# EAGLE library part CHRG-MCP73833 (library eagleLib v2)
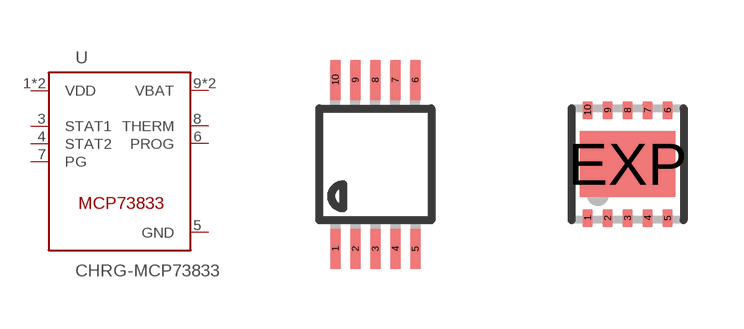
[diagram p28: symbol with the pads of MSOP10; footprints MSOP10, DFN10-3X3]

Designator prefix -

## CHRG-MCP73833-MS  [MSOP10]
1  VDD
2  VDD
3  STAT1
4  STAT2
5  GND
6  PROG
7  PG
8  THERM
9  VBAT
10  VBAT

## CHRG-MCP73833-DFN  [DFN10-3X3]
1  VDD
2  VDD
3  STAT1
4  STAT2
5  GND
6  PG
7  PROG
8  THERM
9  VBAT
10  VBAT
EXP  GND

## Footprint MSOP10 (pad centres in mm)
10-Lead Mini Small Outline Package [MSOP] (RM-10) Source: http://www.analog.com/UploadedFiles/Data_Sheets/35641221898805SSM2167_b.pdf COMPLIANT TO JEDEC STANDARDS MO-187BA
smd 0.25 x 1: 1 -1,-2.113; 2 -0.5,-2.113; 3 0,-2.113; 4 0.5,-2.113; 5 1,-2.113; 6 1,2.113; 7 0.5,2.113; 8 0,2.113; 9 -0.5,2.113; 10 -1,2.113

## Footprint DFN10-3X3 (pad centres in mm)
DD Package 10-Lead Plastic DFN (3mm × 3mm) (Reference LTC DWG # 05-08-1669) Source: http://www.linear.com .. 4062fa.pdf
smd 0.25 x 0.45: 1 -1,-1.35; 2 -0.5,-1.35; 3 0,-1.35; 4 0.5,-1.35; 5 1,-1.35; 6 1,1.35; 7 0.5,1.35; 8 0,1.35; 9 -0.5,1.35; 10 -1,1.35
smd 2.38 x 1.65: EXP 0,0